# Altium footprint library Surface Mount.PcbLib: 37 footprints (part 1 of 3)
Each footprint in its own frame and in the unit in brackets; x right, y up, seen from the top. Pads: shape width x height; smd on the part's side, far side on the other; paste and mask are expansions set on the pad; w line width, h text height; cw(c..) or ccw(c..) is an arc to the next point about the centre after c.
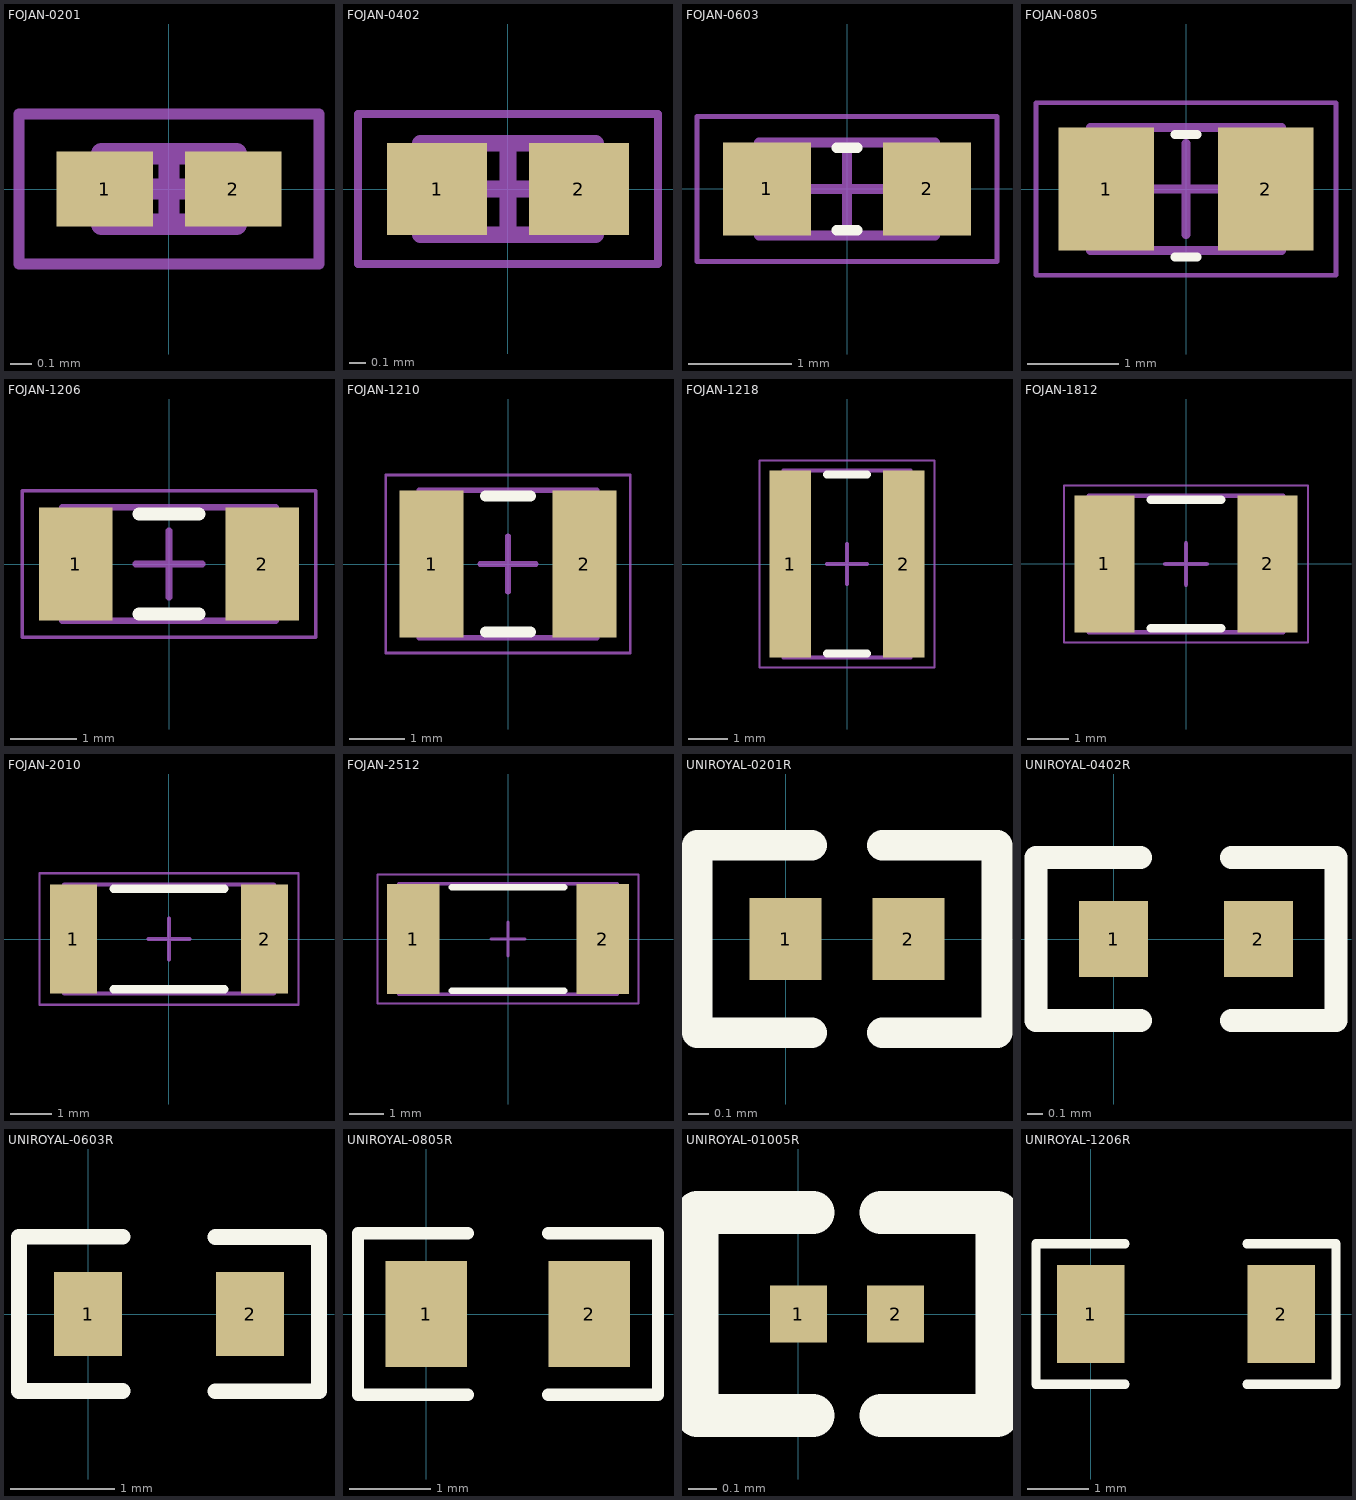
[diagram p0: the footprints below, top view; thin cyan lines are the x and y axes]

## FOJAN-0201 [mm] "FOJAN(富捷) 贴片电阻封装 根据尺寸生成"
height 0.26
pads (2):
  rect 0.45x0.35 smd mask+0.05: 1(-0.3,0) 2(0.3,0)
Mechanical 13:
  lines w0.1: -0.315,-0.165 -0.315,0.165 0.315,0.165 0.315,-0.165 -0.315,-0.165
Mechanical 15:
  lines w0.05: -0.7,-0.35 -0.7,0.35 0.7,0.35 0.7,-0.35 -0.7,-0.35
  lines w0.1: -0.165,0 0.165,0 ; 0,-0.165 0,0.165
3D body "SMD RESISTOR 0201.step": height 0.24, standoff 0, extent -0.3,-0.15 0.3,0.15

## FOJAN-0402 [mm] "FOJAN(富捷) 贴片电阻封装 根据尺寸生成"
height 0.4
pads (2):
  rect 0.6x0.55 smd mask+0.05: 1(-0.425,0) 2(0.425,0)
Mechanical 13:
  lines w0.1: -0.525,-0.275 -0.525,0.275 0.525,0.275 0.525,-0.275 -0.525,-0.275
Mechanical 15:
  lines w0.05: -0.9,-0.45 -0.9,0.45 0.9,0.45 0.9,-0.45 -0.9,-0.45
  lines w0.1: -0.275,0 0.275,0 ; 0,-0.275 0,0.275
3D body "SMD RESISTOR 0402.step": height 0.36, standoff 0, extent -0.5,-0.25 0.5,0.25

## FOJAN-0603 [mm] "FOJAN(富捷) 贴片电阻封装 根据尺寸生成"
height 0.55
pads (2):
  rect 0.85x0.9 smd: 1(-0.775,0) 2(0.775,0)
Top Overlay:
  lines w0.1: -0.1,-0.4 0.1,-0.4 ; -0.1,0.4 0.1,0.4
Mechanical 13:
  lines w0.1: -0.85,-0.45 0.85,-0.45 0.85,0.45 -0.85,0.45 -0.85,-0.45
Mechanical 15:
  lines w0.05: -1.45,-0.7 1.45,-0.7 1.45,0.7 -1.45,0.7 -1.45,-0.7
  lines w0.1: -0.45,0 0.45,0 ; 0,-0.45 0,0.45
3D body "SMD RESISTOR 0603.step": height 0.47, standoff 0.01, extent -0.8,-0.4 0.8,0.4

## FOJAN-0805 [mm] "FOJAN(富捷) 贴片电阻封装 根据尺寸生成"
height 0.6
pads (2):
  rect 1.05x1.35 smd: 1(-0.875,0) 2(0.875,0)
Top Overlay:
  lines w0.1: -0.12,-0.75 0.12,-0.75 ; -0.12,0.6 0.12,0.6
Mechanical 13:
  lines w0.1: -1.05,-0.675 -1.05,0.675 1.05,0.675 1.05,-0.675 -1.05,-0.675
Mechanical 15:
  lines w0.05: -1.65,-0.95 -1.65,0.95 1.65,0.95 1.65,-0.95 -1.65,-0.95
  lines w0.1: -0.5,0 0.5,0 ; 0,-0.5 0,0.5
3D body "SMD RESISTOR 0805.step": height 0.6, standoff 0, extent -1,-0.625 1,0.625

## FOJAN-1206 [mm] "FOJAN(富捷) 贴片电阻封装 根据尺寸生成"
height 0.65
pads (2):
  rect 1.1x1.7 smd: 1(-1.4,0) 2(1.4,0)
Top Overlay:
  lines w0.2: -0.45,-0.75 0.45,-0.75 ; -0.45,0.75 0.45,0.75
Mechanical 13:
  lines w0.1: -1.6,-0.85 -1.6,0.85 1.6,0.85 1.6,-0.85 -1.6,-0.85
Mechanical 15:
  lines w0.05: -2.2,-1.1 -2.2,1.1 2.2,1.1 2.2,-1.1 -2.2,-1.1
  lines w0.1: -0.5,0 0.5,0 ; 0,-0.5 0,0.5
3D body "SMD RESISTOR 1206.step": height 0.6, standoff 0, extent -1.6,-0.8 1.6,0.8

## FOJAN-1210 [mm] "FOJAN(富捷) 贴片电阻封装 根据尺寸生成"
height 0.65
pads (2):
  rect 1.15x2.65 smd: 1(-1.375,0) 2(1.375,0)
Top Overlay:
  lines w0.2: -0.4,-1.225 0.4,-1.225 ; -0.4,1.225 0.4,1.225
Mechanical 13:
  lines w0.1: -1.6,-1.325 -1.6,1.325 1.6,1.325 1.6,-1.325 -1.6,-1.325
Mechanical 15:
  lines w0.05: -2.2,-1.6 -2.2,1.6 2.2,1.6 2.2,-1.6 -2.2,-1.6
  lines w0.1: -0.5,0 0.5,0 ; 0,-0.5 0,0.5
3D body "SMD RESISTOR 1210.step": height 0.6, standoff 0, extent -1.6,-1.25 1.6,1.25

## FOJAN-1218 [mm] "FOJAN(富捷) 贴片电阻封装 根据尺寸生成"
height 0.65
pads (2):
  rect 1.05x4.7 smd: 1(-1.425,0) 2(1.425,0)
Top Overlay:
  lines w0.2: -0.5,-2.25 0.5,-2.25 ; -0.5,2.25 0.5,2.25
Mechanical 13:
  lines w0.1: -1.6,-2.35 -1.6,2.35 1.6,2.35 1.6,-2.35 -1.6,-2.35
Mechanical 15:
  lines w0.05: -2.2,-2.6 -2.2,2.6 2.2,2.6 2.2,-2.6 -2.2,-2.6
  lines w0.1: -0.5,0 0.5,0 ; 0,-0.5 0,0.5
3D body "SMD RESISTOR 1218.STEP": height 0.6, standoff 0, extent -1.6,-2.3 1.6,2.3

## FOJAN-1812 [mm] "FOJAN(富捷) 贴片电阻封装 根据尺寸生成"
height 0.75
pads (2):
  rect 1.45x3.3 smd: 1(-1.975,0) 2(1.975,0)
Top Overlay:
  lines w0.2: -0.85,-1.55 0.85,-1.55 ; -0.85,1.55 0.85,1.55
Mechanical 13:
  lines w0.1: -2.35,-1.65 -2.35,1.65 2.35,1.65 2.35,-1.65 -2.35,-1.65
Mechanical 15:
  lines w0.05: -2.95,-1.9 -2.95,1.9 2.95,1.9 2.95,-1.9 -2.95,-1.9
  lines w0.1: -0.5,0 0.5,0 ; 0,-0.5 0,0.5
3D body "SMD RESISTOR 1812.step": height 0.6, standoff 0, extent -2.25,-1.6 2.25,1.6

## FOJAN-2010 [mm] "FOJAN(富捷) 贴片电阻封装 根据尺寸生成"
height 0.6
pads (2):
  rect 1.15x2.65 smd: 1(-2.325,0) 2(2.325,0)
Top Overlay:
  lines w0.2: -1.35,-1.225 1.35,-1.225 ; -1.35,1.225 1.35,1.225
Mechanical 13:
  lines w0.1: -2.55,-1.325 2.55,-1.325 2.55,1.325 -2.55,1.325 -2.55,-1.325
Mechanical 15:
  lines w0.05: -3.15,-1.6 3.15,-1.6 3.15,1.6 -3.15,1.6 -3.15,-1.6
  lines w0.1: -0.5,0 0.5,0 ; 0,-0.5 0,0.5
3D body "SMD RESISTOR 2010.step": height 0.6, standoff 0, extent -2.5,-1.25 2.5,1.25

## FOJAN-2512 [mm] "FOJAN(富捷) 贴片电阻封装 根据尺寸生成"
height 0.8
pads (2):
  rect 1.55x3.25 smd: 1(-2.8,0) 2(2.8,0)
Top Overlay:
  lines w0.2: -1.65,-1.525 1.65,-1.525 ; -1.65,1.525 1.65,1.525
Mechanical 13:
  lines w0.1: -3.225,-1.625 -3.225,1.625 3.225,1.625 3.225,-1.625 -3.225,-1.625
Mechanical 15:
  lines w0.05: -3.85,-1.9 -3.85,1.9 3.85,1.9 3.85,-1.9 -3.85,-1.9
  lines w0.1: -0.5,0 0.5,0 ; 0,-0.5 0,0.5
3D body "SMD RESISTOR 2512.step": height 0.6, standoff 0, extent -3.2,-1.6 3.2,1.6

## UNIROYAL-0201R [mm] "UNI-ROYAL(厚声)数据手册中推荐的0201电阻封装"
pads (2):
  rect 0.35x0.4 smd mask+0.03: 1(0,0) 2(0.6,0)
Top Overlay:
  lines w0.15: 0.127,-0.457 -0.432,-0.457 -0.432,0.457 0.127,0.457 ; 0.473,-0.457 1.032,-0.457 1.032,0.457 0.473,0.457
3D body "SMD RESISTOR 0201.step": height 0.24, standoff 0, extent 0,-0.15 0.6,0.15

## UNIROYAL-0402R [mm] "UNI-ROYAL(厚声)数据手册中推荐的0402电阻封装"
pads (2):
  rect 0.45x0.5 smd mask+0.05: 1(0,0) 2(0.95,0)
Top Overlay:
  lines w0.15: 0.178,-0.533 -0.508,-0.533 -0.508,0.533 0.178,0.533 ; 0.772,-0.533 1.458,-0.533 1.458,0.533 0.772,0.533
3D body "SMD RESISTOR 0402.step": height 0.35, standoff -0.01, extent -0.025,-0.25 0.975,0.25

## UNIROYAL-0603R [mm] "UNI-ROYAL(厚声)数据手册中推荐的0603电阻封装"
pads (2):
  rect 0.65x0.8 smd: 1(0,0) 2(1.55,0)
Top Overlay:
  lines w0.15: 0.33,-0.737 -0.661,-0.737 -0.661,0.739 0.33,0.739 ; 1.219,-0.739 2.21,-0.739 2.21,0.737 1.219,0.737
3D body "SMD RESISTOR 0603.step": height 0.47, standoff 0.01, extent -0.025,-0.4 1.575,0.4

## UNIROYAL-0805R [mm] "UNI-ROYAL(厚声)数据手册中推荐的0805贴片电阻封装"
pads (2):
  rect 1x1.3 smd: 1(0,0) 2(2,0)
Top Overlay:
  lines w0.15: 0.508,-0.991 -0.838,-0.991 -0.838,0.991 0.508,0.991 ; 1.499,-0.991 2.845,-0.991 2.845,0.991 1.499,0.991
3D body "SMD RESISTOR 0805.step": height 0.6, standoff 0, extent 0,-0.625 2,0.625

## UNIROYAL-01005R [mm] "UNI-ROYAL(厚声)数据手册中推荐的01005电阻封装"
pads (2):
  rect 0.2x0.2 smd mask+0.02: 1(0,0) 2(0.34,0)
Top Overlay:
  lines w0.15: 0.051,-0.356 -0.356,-0.356 -0.356,0.356 0.051,0.356 ; 0.289,-0.356 0.696,-0.356 0.696,0.356 0.289,0.356
3D body "SMD RESISTOR 01005.step": height 0.14, standoff 0, extent -0.03,-0.1 0.37,0.1

## UNIROYAL-1206R [mm] "UNI-ROYAL(厚声)数据手册中推荐的1206贴片电阻封装"
pads (2):
  rect 1.1x1.6 smd: 1(0,0) 2(3.1,0)
Top Overlay:
  lines w0.15: 0.559,-1.143 -0.889,-1.143 -0.889,1.143 0.559,1.143 ; 2.541,-1.143 3.989,-1.143 3.989,1.143 2.541,1.143
3D body "SMD RESISTOR 1206.step": height 0.7, standoff 0.1, extent -0.05,-0.8 3.15,0.8